# Altium schematic symbol library AoA_Locator.SchLib: 2 symbols
Pins are listed as number, name and electrical type; pins without a type are passive.

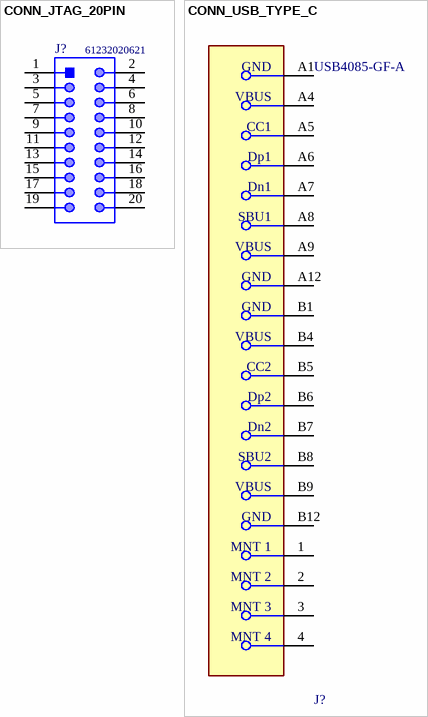
[diagram p0: symbols CONN_JTAG_20PIN to CONN_USB_TYPE_C]

## CONN_JTAG_20PIN
designator J?, comment 61232020621
Male Box Header WR-BHD, SMT, Vertical, pitch 2.54 mm, 20 pins; Manufacturer: Wurth Elektronik; Withstanding Voltage: 500VAC; Working Voltage: 250VAC; Pin Number: 20; Contact Resistance: 20mOhm; Pitch: 2.54mm; Datasheet URL: https://katalog.we-online.de/em/datasheet/6123xx20621.pdf; Gender: Male; Packaging: TapeandReel; Operating Temperature: -40to125degC; Mounting Technology: SMT; Orientation: Vertical; Published Date: August2018; Part Number: 61232020621; Manufacturer URL: http://www.we-online.de; Package Reference: 61232020621; Publisher: WurthElektronik
footprint CONN_JTAG_20PIN (WR-BHD 2.54mm Male SMT Box Header (Reel), 20p)
pins: 1, 2, 3, 4, 5, 6, 7, 8, 9, 10, 11, 12, 13, 14, 15, 16, 17, 18, 19, 20

## CONN_USB_TYPE_C
designator J?, comment USB4085-GF-A
CONN RCPT USB2.0 TYPEC 16POS; Manufacturer: Global Connector Technology; Voltage Rating: 20V; Conn Orientation: Right Angle; Shielding: true; Current Rating: 4.25A; Number Of Contacts: 16; Pitch: 0.85mm; Is Female: yes; ComponentLink2URL: https://gct.co/files/drawings/usb4085.pdf; Category: Conn; Automotive: No; ComponentLink2Description: Datasheet; Height: 3.66mm; Manufacturer Part Number: USB4085-GF-A; Package: 0; Usb Standard: USB 2.0; Octopart: https://octopart.com/usb4085-gf-a-global+connector+technology-94773699; Device Class L3: unset; Digikey Description: CONN RCPT USB2.0 TYPEC 16POS; Temperature Range Low: -40°C; Temperature: -40°C to +85°C; Lead Free: Yes; Contact Material: Gold,Nickel; Device Class L1: Connectors; Temperature Range High: +85°C; Device Class L2: USB Connectors; RoHS: TRUE
footprint CONN_USB_TYPE_C
pins: 1 MNT 1, 2 MNT 2, 3 MNT 3, 4 MNT 4, A1 GND (power), A4 VBUS (power), A5 CC1, A6 Dp1, A7 Dn1, A8 SBU1, A9 VBUS (power), A12 GND (power), B1 GND (power), B4 VBUS (power), B5 CC2, B6 Dp2, B7 Dn2, B8 SBU2, B9 VBUS (power), B12 GND (power)